# Altium footprint library CAPRR1500W60L1750T500H1050.PcbLib: 1 footprints
Each footprint in its own frame and in the unit in brackets; x right, y up, seen from the top. Pads: shape width x height; smd on the part's side, far side on the other; paste and mask are expansions set on the pad; w line width, h text height; cw(c..) or ccw(c..) is an arc to the next point about the centre after c.
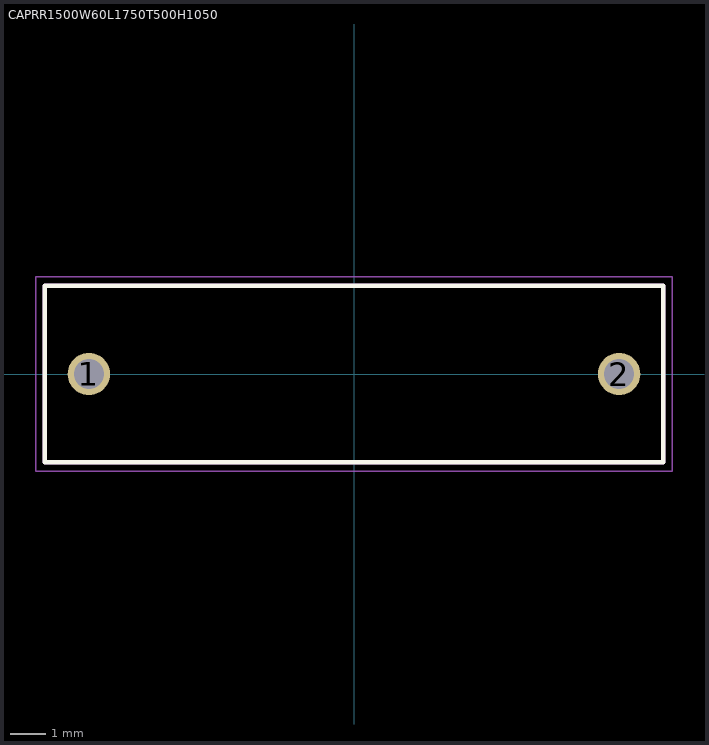
[diagram p0: the footprint, top view; thin cyan lines are the x and y axes]

## CAPRR1500W60L1750T500H1050 [mm]
pads (2):
  round 1.2 hole 0.85: 1(-7.5,0) 2(7.5,0)
Top Overlay:
  lines w0.127: -8.75,-2.5 8.75,-2.5 8.75,2.5 -8.75,2.5 -8.75,-2.5
Mechanical 13:
  lines w0.127: -8.75,-2.5 -8.75,2.5 8.75,2.5 8.75,-2.5 -8.75,-2.5
Mechanical 15:
  lines w0.05: -9,-2.75 -9,2.75 9,2.75 9,-2.75 -9,-2.75